# Altium footprint library 691317710002.PcbLib: 1 footprints
Each footprint in its own frame and in the unit in brackets; x right, y up, seen from the top. Pads: shape width x height; smd on the part's side, far side on the other; paste and mask are expansions set on the pad; w line width, h text height; cw(c..) or ccw(c..) is an arc to the next point about the centre after c.
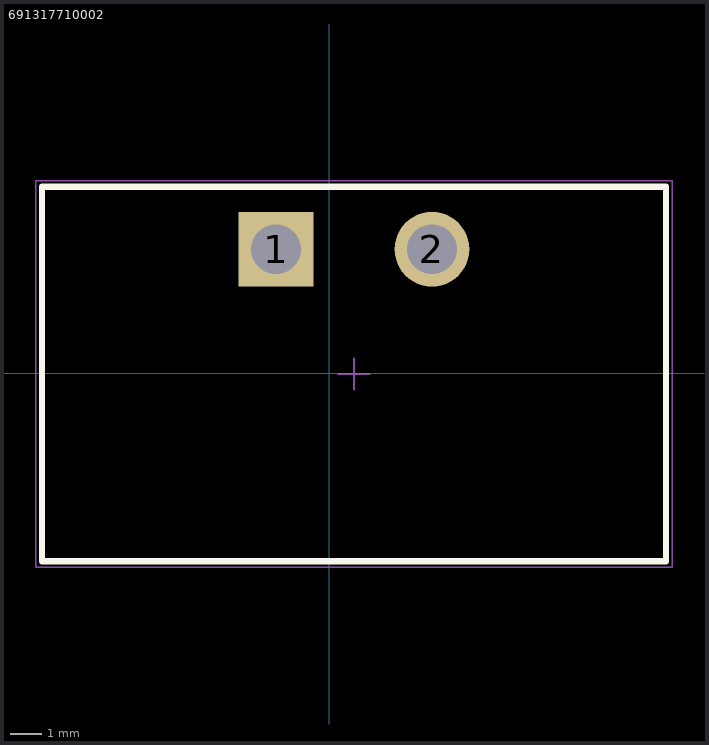
[diagram p0: the footprint, top view; thin cyan lines are the x and y axes]

## 691317710002 [mm]
pads (2):
  rect 2.4x2.4 hole 1.6: 1(-1.706,3.968)
  round 2.4 hole 1.6: 2(3.294,3.968)
Top Overlay:
  lines w0.2: -9.206,-6.032 -9.206,5.968 10.794,5.968 10.794,-6.032 -9.206,-6.032
Top Assembly:
  lines w0.1: -9.206,-6.032 10.794,-6.032 10.794,5.968 -9.206,5.968 -9.206,-6.032
Top Courtyard:
  lines w0.05: 0.294,-0.032 1.294,-0.032 ; 0.794,-0.532 0.794,0.468 ; -9.406,-6.232 10.994,-6.232 10.994,6.168 -9.406,6.168 -9.406,-6.232
3D body "691317710002.stp": height 8.55, standoff -3.95, extent -9.206,-6.032 10.794,5.968